# EAGLE library part 78CBTLV3257 (library alvie)
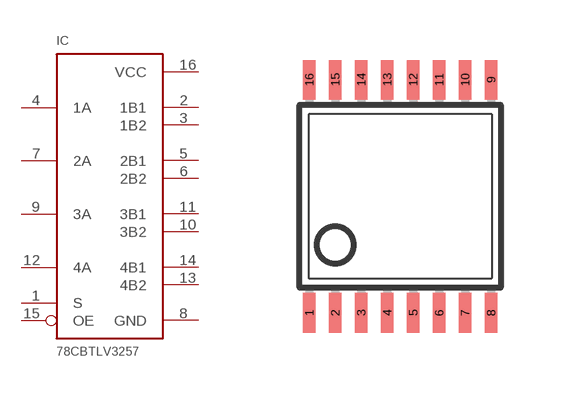
[diagram p28: symbol with the pads of TSSOP16; footprint TSSOP16]

Designator prefix IC

## 78CBTLV3257  [TSSOP16]
1  S  in
2  1B1
3  1B2
4  1A
5  2B1
6  2B2
7  2A
8  GND  pwr
9  3A
10  3B2
11  3B1
12  4A
13  4B2
14  4B1
15  OE  in
16  VCC  pwr

## Footprint TSSOP16 (pad centres in mm)
smd 0.305 x 0.991: 1 -2.275,-2.918; 2 -1.625,-2.918; 3 -0.975,-2.918; 4 -0.325,-2.918; 5 0.325,-2.918; 6 0.975,-2.918; 7 1.625,-2.918; 8 2.275,-2.918; 9 2.275,2.918; 10 1.625,2.918; 11 0.975,2.918; 12 0.325,2.918; 13 -0.325,2.918; 14 -0.975,2.918; 15 -1.625,2.918; 16 -2.275,2.918